# Altium schematic symbol library AP9101CAK6-ANTRG1.Schlib: 1 symbol
Pins are listed as number, name and electrical type; pins without a type are passive.

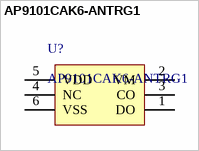
[diagram p0: symbol AP9101CAK6-ANTRG1]

## AP9101CAK6-ANTRG1
designator U?
Battery Battery Protection IC Lithium Ion/Polymer SOT-26
pins: 1 DO, 2 VM, 3 CO, 4 NC, 5 VDD, 6 VSS